# Altium schematic symbol library XTAL,40MHz,10pF,SMD.Schlib: 1 symbol
Pins are listed as number, name and electrical type; pins without a type are passive.

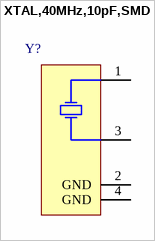
[diagram p0: symbol XTAL,40MHz,10pF,SMD]

## XTAL,40MHz,10pF,SMD
designator Y?
pins: 1 OSC1, 2 GND, 3 OSC2, 4 GND